# Altium footprint library Capacitores.PcbLib: 11 footprints
Each footprint in its own frame and in the unit in brackets; x right, y up, seen from the top. Pads: shape width x height; smd on the part's side, far side on the other; paste and mask are expansions set on the pad; w line width, h text height; cw(c..) or ccw(c..) is an arc to the next point about the centre after c.
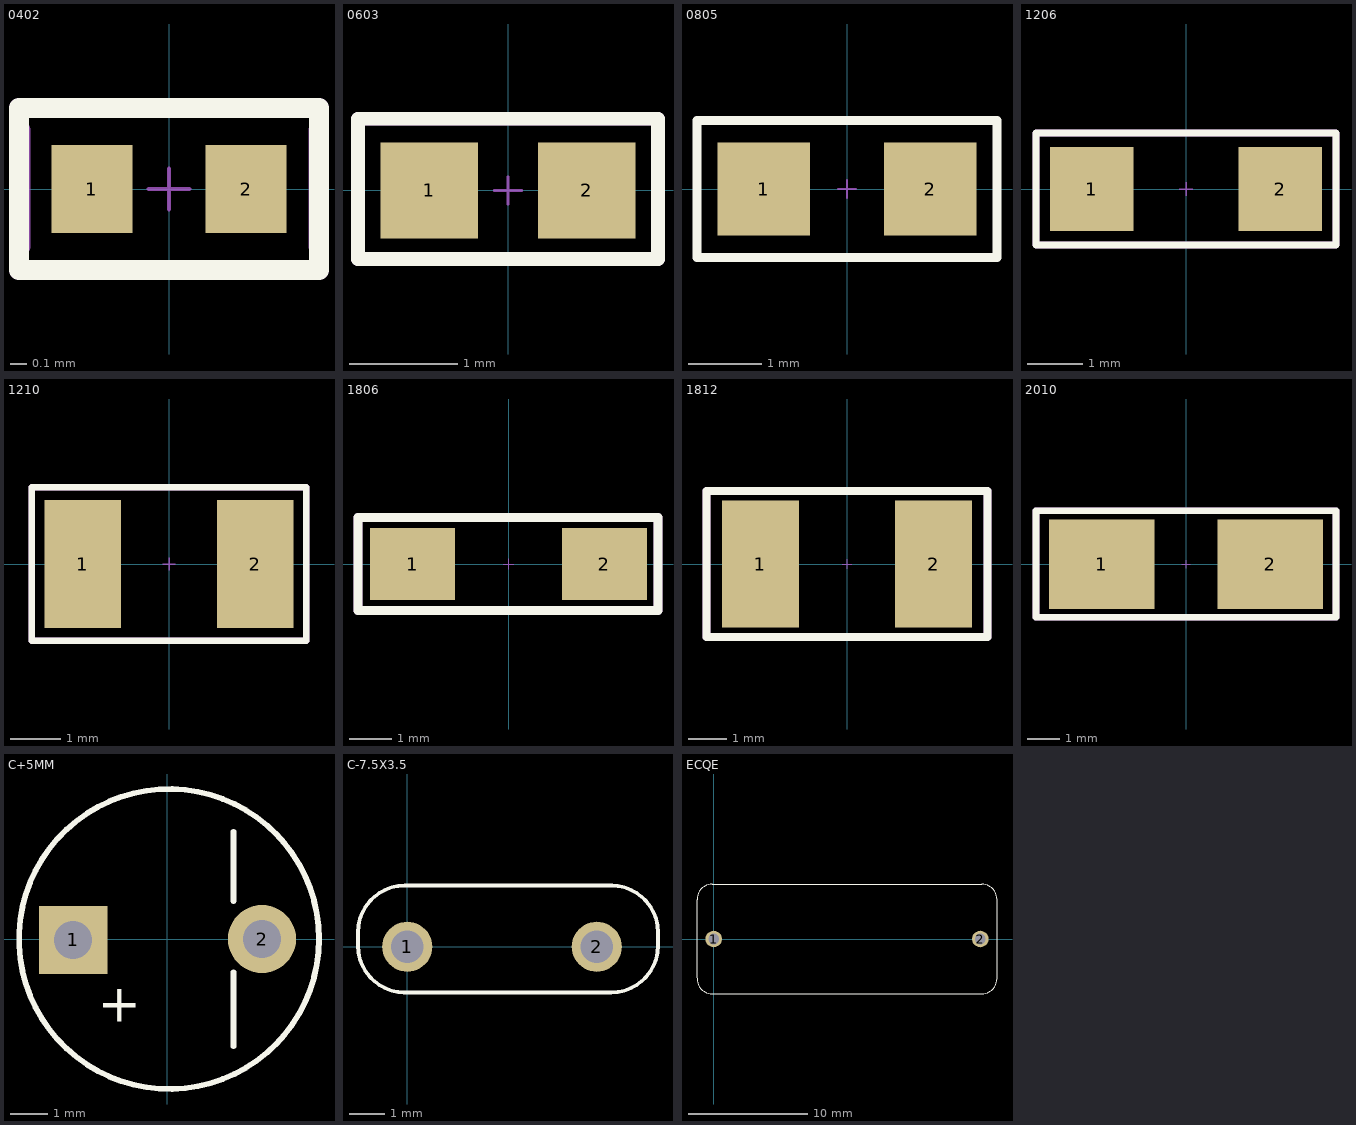
[diagram p0: the footprints below, top view; thin cyan lines are the x and y axes]

## 0402 [mil] "SMD 0402 inch - 1005 mm"
pads (2):
  rect 20x21.65 smd: 1(-19,0) 2(19,0)
Top Overlay:
  lines w5: -37,-20 -37,20 37,20 37,-20 -37,-20
Mechanical 15:
  lines w1: -5,0 0,0 5,0 ; 0,-5 0,5
  lines w5: -36.72,-14.17 -36.72,14.57 ; 36.91,-14.17 36.91,14.57 ; -37,-20 37,-20 37,20 -37,20 -37,-20
3D body "0402E.STEP": height 14.17, standoff -0.39, extent -20.08,-10 20.08,10.47

## 0603 [mil] "SMD 0603 inch - 1608 mm"
pads (2):
  rect 35.43x35 smd: 1(-28.56,0) 2(28.56,0)
Top Overlay:
  lines w5: -54.55,-25 -54.55,26 ; -53.82,-24.98 54.44,-24.98 ; -53.82,26.02 54.44,26.02 ; 54.51,-25 54.51,26
Mechanical 15:
  lines w1: -5,0 0,0 5,0 ; 0,-5 0,5
  lines w5: -54.55,-25 -54.55,26 ; -53.82,-24.98 54.44,-24.98 ; -53.82,26.02 54.44,26.02 ; 54.51,-25 54.51,26
3D body "0603E.STEP": height 18.9, standoff -1.18, extent -31.5,-16.93 31.49,16.93

## 0805 [mil] "SMD 0805 inch - 2012 mm"
pads (2):
  rect 50x50 smd: 1(-45,0) 2(45,0)
Top Overlay:
  lines w5: -81,-37 -81,37 ; -80,-37 81,-37 81,37 -80,37
Mechanical 15:
  lines w1: -5,0 0,0 5,0 ; 0,-5 0,5
3D body "0805E.STEP": height 16.93, standoff -1.18, extent -40,-25 38.74,24.61

## 1206 [mil] "SMD 1206 inch - 3216 mm"
pads (2):
  rect 60x60 smd: 1(-67.5,0) 2(67.5,0)
Top Overlay:
  lines w5: -107.5,-40 -107.5,40 107.5,40 107.5,-40 -107.5,-40
Mechanical 15:
  lines w1: -5,0 0,0 5,0 ; 0,-5 0,5
  lines w5: -107.5,-40 107.5,-40 107.5,40 -107.5,40 -107.5,-40
3D body "1206E.STEP": height 20.87, standoff -1.18, extent -62.5,-33 63.48,32.35

## 1210 [mil] "SMD 1210 inch - 3225 mm"
pads (2):
  rect 60x100 smd: 1(-67.5,0) 2(67.5,0)
Top Overlay:
  lines w5: -107.5,-60 -107.5,60 107.5,60 107.5,-60 -107.5,-60
Mechanical 15:
  lines w1: -5,0 0,0 5,0 ; 0,-5 0,5
  lines w5: -107.5,-60 107.5,-60 107.5,60 -107.5,60 -107.5,-60
3D body "1210E.STEP": height 24.02, standoff -0.39, extent -62.89,-50 63.89,49.21

## 1806 [mm] "SMD 1806 inch -  4516mm"
pads (2):
  rect 2x1.7 smd: 1(-2.25,0) 2(2.25,0)
Top Overlay:
  lines w0.203: -3.531,-1.092 3.505,-1.092 3.505,1.092 -3.531,1.092 -3.531,-1.092
Mechanical 15:
  lines w0.025: -0.127,0 0,0 0.127,0 ; 0,-0.127 0,0.127
  lines w0.203: -3.531,-1.092 -3.531,1.092 3.505,1.092 3.505,-1.092 -3.531,-1.092
3D body "1806.step": height 1.6, standoff 0, extent -2.239,-0.813 2.261,0.787

## 1812 [mm] "SMD 1812 inch -  4532mm"
pads (2):
  rect 2x3.302 smd: 1(-2.25,0) 2(2.25,0)
Top Overlay:
  lines w0.203: -3.653,-1.9 -3.653,1.9 3.653,1.9 3.653,-1.9 -3.653,-1.9
Mechanical 15:
  lines w0.025: -0.127,0 0,0 0.127,0 ; 0,-0.127 0,0.127
  lines w0.203: -3.653,-1.9 3.653,-1.9 3.653,1.9 -3.653,1.9 -3.653,-1.9
3D body "1812E.STEP": height 1.6, standoff 0, extent -2.25,-1.6 2.25,1.6

## 2010 [mil] "SMD 2010 inch - 5025 mm"
pads (2):
  rect 130x110 smd: 1(-103.5,0) 2(103.5,0)
Top Overlay:
  lines w8: -184.5,-65 184.5,-65 184.5,66 -184.5,66 -184.5,-65
Mechanical 15:
  lines w1: -5,0 0,0 5,0 ; 0,-5 0,5
  lines w8: -184.5,-65 -184.5,66 184.5,66 184.5,-65 -184.5,-65
3D body "2010E.STEP": height 24.02, standoff -0.39, extent -98.14,-50 99.5,49.21

## C+5MM [mil]
pads (2):
  rect 72x72 hole 40: 1(-99,-1)
  round 72 hole 40: 2(100,0)
Top Overlay:
  circle w6: c2,0 r158.05
  lines w6: 70,-113 70,-35 ; 70,40 70,113
  text "+" at -73,-87 h40

## C-7.5X3.5 [mm]
pads (2):
  round 1.4 hole 0.9: 1(0,0) 2(5.283,0)
Top Overlay:
  lines w0.102: -0.102,-1.275 5.69,-1.275 ; -0.076,1.706 5.715,1.706 ; -0.071,-1.275 cw(c-0.075,0.025) -1.375,0.025 -1.375,0.406 cw(c-0.075,0.406) -0.071,1.706 ; 5.685,-1.275 ccw(c5.688,0.025) 6.988,0.025 6.988,0.406 ccw(c5.688,0.406) 5.685,1.706
3D body "User Library-CAPML200 (2_5x6_6).step": height 9.14, standoff -3.77, extent -0.947,-1.173 6.129,1.427

## ECQE [mm]
pads (2):
  round 1.4 hole 0.9: 1(0,0) 2(22.479,0)
Top Overlay:
  lines w0.102: -1.4,-3.327 ccw(c-0.1,-3.327) -0.097,-4.627 22.576,-4.627 ccw(c22.579,-3.327) 23.879,-3.327 ; -1.4,-3.277 -1.4,3.327 cw(c-0.1,3.327) -0.097,4.627 ; -0.097,4.626 22.576,4.626 ; 22.576,4.627 cw(c22.579,3.327) 23.879,3.327 23.879,-3.277
3D body "User Library-ECQE(F) 0_47uf 630Vdc 250Vac.step": height 20.5, standoff -3, extent -1.697,-4.65 24.303,4.65